# Altium footprint library 4-1571552-4.PcbLib: 1 footprints
Each footprint in its own frame and in the unit in brackets; x right, y up, seen from the top. Pads: shape width x height; smd on the part's side, far side on the other; paste and mask are expansions set on the pad; w line width, h text height; cw(c..) or ccw(c..) is an arc to the next point about the centre after c.
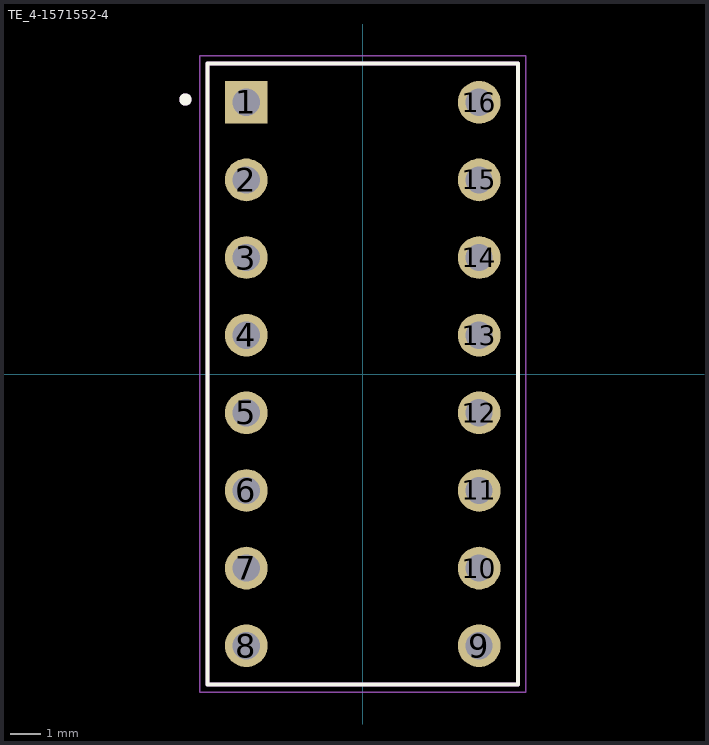
[diagram p0: the footprint, top view; thin cyan lines are the x and y axes]

## TE_4-1571552-4 [mil]
pads (16):
  rect 55x55 hole 35: 1(-150,350)
  round 55 hole 35: 2(-150,250) 3(-150,150) 4(-150,50) 5(-150,-50) 6(-150,-150) 7(-150,-250) 8(-150,-350) 9(150,-350) 10(150,-250) 11(150,-150) 12(150,-50) 13(150,50) 14(150,150) 15(150,250) 16(150,350)
Top Overlay:
  circle w7.87: c-228.35,353.54 r3.94
  lines w5: -200,-400 -200,400 200,400 200,-400 -200,-400
Mechanical 13:
  circle w7.87: c-228.35,353.54 r3.94
  lines w5: -200,-400 -200,400 200,400 200,-400 -200,-400
Mechanical 15:
  lines w1.97: -209.84,-409.84 -209.84,409.84 209.84,409.84 209.84,-409.84 -209.84,-409.84